# EAGLE library part ATTINY43U (library Atmel_AVR8)
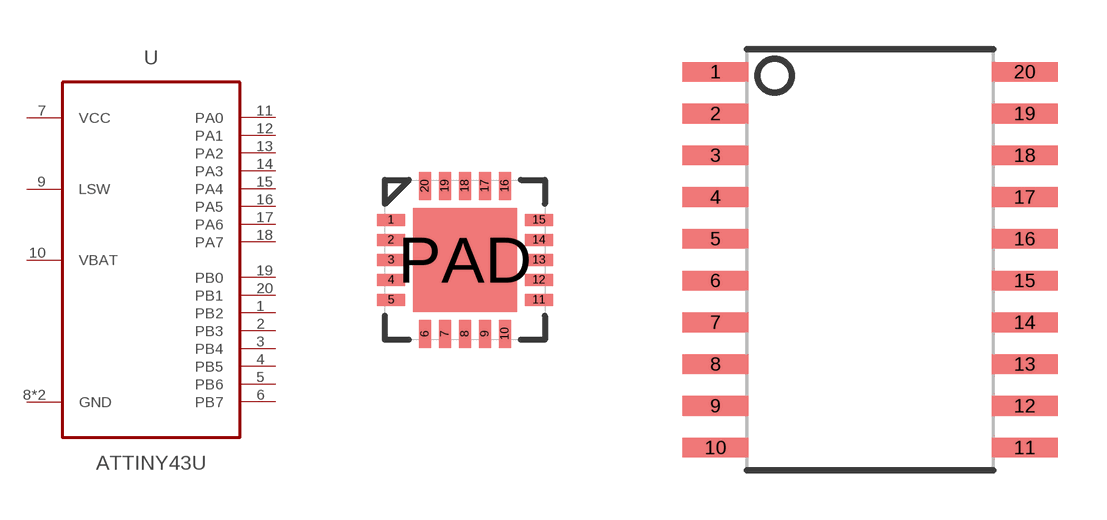
[diagram p12: symbol with the pads of 20M1; footprints 20M1, 20S2]

Designator prefix U

## ATTINY43U-MU  [20M1]
1  PB2
2  PB3
3  PB4
4  PB5
5  PB6
6  PB7
7  VCC  pwr
8  GND  pas
9  LSW  pas
10  VBAT  pas
11  PA0
12  PA1
13  PA2
14  PA3
15  PA4
16  PA5
17  PA6
18  PA7
19  PB0
20  PB1
PAD  GND  pas

## ATTINY43U-SU  [20S2]
1  PB0
2  PB1
3  PB2
4  PB3
5  PB4
6  PB5
7  PB6
8  PB7
9  VCC  pwr
10  GND  pas
11  LSW  pas
12  VBAT  pas
13  PA0
14  PA1
15  PA2
16  PA3
17  PA4
18  PA5
19  PA6
20  PA7

## Footprint 20M1 (pad centres in mm)
20-pad, 4 x 4 x 0.8 mm Body, Lead Pitch 0.50 mm, 2.6 mm Exposed Pad, Micro Lead Frame Package (MLF) 0.40 mm Lead Length Atmel PCB Mounting Guidelines for Surface Mount Packages, Page 12 <http://www.atmel.com/images/atmel-8826-seeprom-pcb-mounting-guidelines-surface-mount-packages-applicationnote.pdf#page=12>
smd 0.7 x 0.3: 1 -1.85,1; 2 -1.85,0.5; 3 -1.85,0; 4 -1.85,-0.5; 5 -1.85,-1; 11 1.85,-1; 12 1.85,-0.5; 13 1.85,0; 14 1.85,0.5; 15 1.85,1
smd 0.3 x 0.7: 6 -1,-1.85; 7 -0.5,-1.85; 8 0,-1.85; 9 0.5,-1.85; 10 1,-1.85; 16 1,1.85; 17 0.5,1.85; 18 0,1.85; 19 -0.5,1.85; 20 -1,1.85
smd 2.6 x 2.6: PAD 0,0

## Footprint 20S2 (pad centres in mm)
20-lead, 0.300" Wide, Plastic Gull Wing Small Outline Package (SOIC) Atmel PCB Mounting Guidelines for Surface Mount Packages, Page 6 <http://www.atmel.com/images/atmel-8826-seeprom-pcb-mounting-guidelines-surface-mount-packages-applicationnote.pdf#page=6>
smd 2 x 0.6: 1 -4.7,5.715; 2 -4.7,4.445; 3 -4.7,3.175; 4 -4.7,1.905; 5 -4.7,0.635; 6 -4.7,-0.635; 7 -4.7,-1.905; 8 -4.7,-3.175; 9 -4.7,-4.445; 10 -4.7,-5.715; 11 4.7,-5.715; 12 4.7,-4.445; 13 4.7,-3.175; 14 4.7,-1.905; 15 4.7,-0.635; 16 4.7,0.635; 17 4.7,1.905; 18 4.7,3.175; 19 4.7,4.445; 20 4.7,5.715